# EAGLE library part MISC-ADUM3160BRWZ (library tidyeagle)
USB Isolator Datasheet: Full <http://www.analog.com/static/imported-files/data_sheets/ADuM3160.pdf> Farnell: 1843660 <http://uk.farnell.com/analog-devices/adum3160brwz/ic-isolator-digital-usb-16soic/dp/1843660?Ntt=ADUM3160>
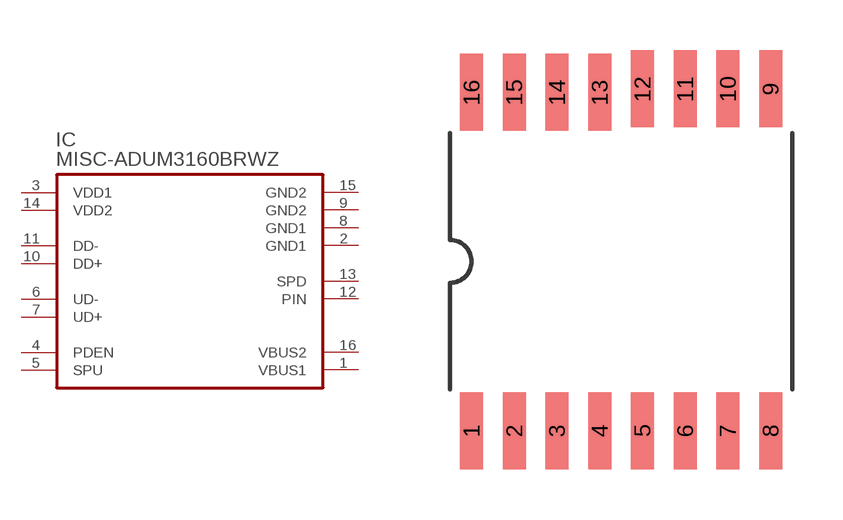
[diagram p16: symbol with the pads of SO16L; footprint SO16L]

Designator prefix IC

## MISC-ADUM3160BRWZ  [SO16L]
1  VBUS1  pas
2  GND1  pas
3  VDD1  pas
4  PDEN  pas
5  SPU  pas
6  UD-  pas
7  UD+  pas
8  GND1  pas
9  GND2  pas
10  DD+  pas
11  DD-  pas
12  PIN  pas
13  SPD  pas
14  VDD2  pas
15  GND2  pas
16  VBUS2  pas

## Footprint SO16L (pad centres in mm)
smd 0.686 x 2.286: 1 -4.445,-5.029; 2 -3.175,-5.029; 3 -1.905,-5.029; 4 -0.635,-5.029; 5 0.635,-5.029; 6 1.905,-5.029; 7 3.175,-5.029; 8 4.445,-5.029; 9 4.445,5.131; 10 3.175,5.131; 11 1.905,5.131; 12 0.635,5.131; 13 -0.635,5.029; 14 -1.905,5.029; 15 -3.175,5.029; 16 -4.445,5.029